# EAGLE library part LTC5508 (library GTA04b7)
300MHz to 7GHz RF Power Detector with Buffered Output in SC70 Package
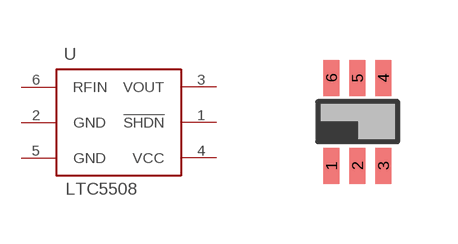
[diagram p27: symbol with the pads of SC70-6; footprint SC70-6]

Designator prefix -

## LTC5508ESC6  [SC70-6]
1  !SHDN  in
2  GND  pwr
3  VOUT  pas
4  VCC  pwr
5  GND  pwr
6  RFIN  in

## Footprint SC70-6 (pad centres in mm)
SC70-6
smd 0.4 x 0.9: 1 -0.65,-1.1; 2 0,-1.1; 3 0.65,-1.1; 4 0.65,1.1; 5 0,1.1; 6 -0.65,1.1